# Altium schematic symbol library CRCW06031M47FKEA.SchLib: 1 symbol
Pins are listed as number, name and electrical type; pins without a type are passive.

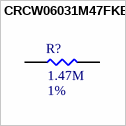
[diagram p0: symbol CRCW06031M47FKEA]

## CRCW06031M47FKEA
designator R?  Resistance: 1.47M  Tolerance: 1%  (hidden comment: CRCW06031M47FKEA)
RES SMD 1.47M OHM 1% 1/10W 0603; MFR: Vishay Dale; Footprint: RES0603; Package: 0603; ComponentLink1Description: Datasheet; Power Rating: 1/10W; Supplier 1: Mouser; Supplier Part Number 1: 71-CRCW06031M47FKEA
footprint RES0603 (Generic 0603)
pins: 1, 2